# Altium footprint library LED.PcbLib: 1 footprints
Each footprint in its own frame and in the unit in brackets; x right, y up, seen from the top. Pads: shape width x height; smd on the part's side, far side on the other; paste and mask are expansions set on the pad; w line width, h text height; cw(c..) or ccw(c..) is an arc to the next point about the centre after c.
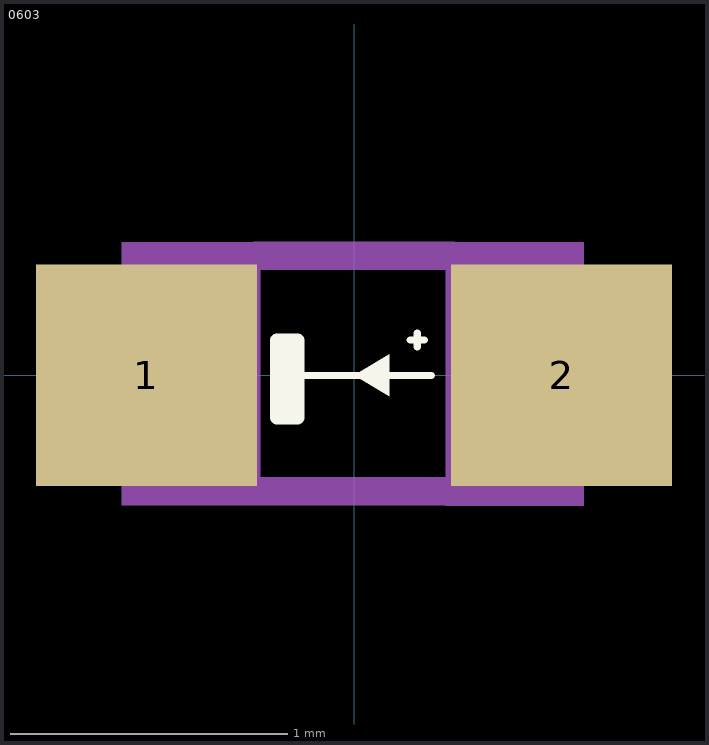
[diagram p0: the footprint, top view; thin cyan lines are the x and y axes]

## 0603 [mm]
pads (2):
  rect 0.8x0.8 smd mask+0.051: 1(-0.75,0) 2(0.75,0)
Top Overlay:
  region: 0.127,0.076 0.127,-0.076 0,0
  lines w0.025: -0.178,0 0.279,0 ; 0.203,0.127 0.254,0.127 ; 0.229,0.102 0.229,0.152
  lines w0.05: -0.229,0.102 -0.229,-0.127 -0.254,-0.127 -0.254,0.127 -0.279,0.127 ; -0.279,0.127 -0.203,0.127 -0.203,-0.152 -0.279,-0.152 -0.279,0.127
Mechanical 4:
  region: 0.331,0.48 0.83,0.48 0.83,-0.471 0.331,-0.471
  region: -0.839,0.48 -0.338,0.48 -0.338,-0.47 -0.839,-0.47
  region: 0.331,0.48 0.83,0.48 0.83,-0.471 0.331,-0.471
  region: -0.839,0.48 -0.338,0.48 -0.338,-0.47 -0.839,-0.47
  lines w0.102: -0.356,-0.419 0.356,-0.419 -0.356,-0.419 ; -0.356,0.432 0.356,0.432 -0.356,0.432
3D body "LTST-C190KRKT--3DModel-STEP-56544.STEP": height 0.8, standoff 0, extent -0.8,-0.4 0.8,0.4